# EAGLE library part TUSB2077A (library texas)
The Texas Instruments TUSB2007A in the 48-pin LQFP package. 7-port USB 2.0 hub/controller. Datasheet <http://www.ti.com/lit/ds/symlink/tusb2077a.pdf> Created by Ben Hurwitz, 10-6-16 Robotics@Maryland
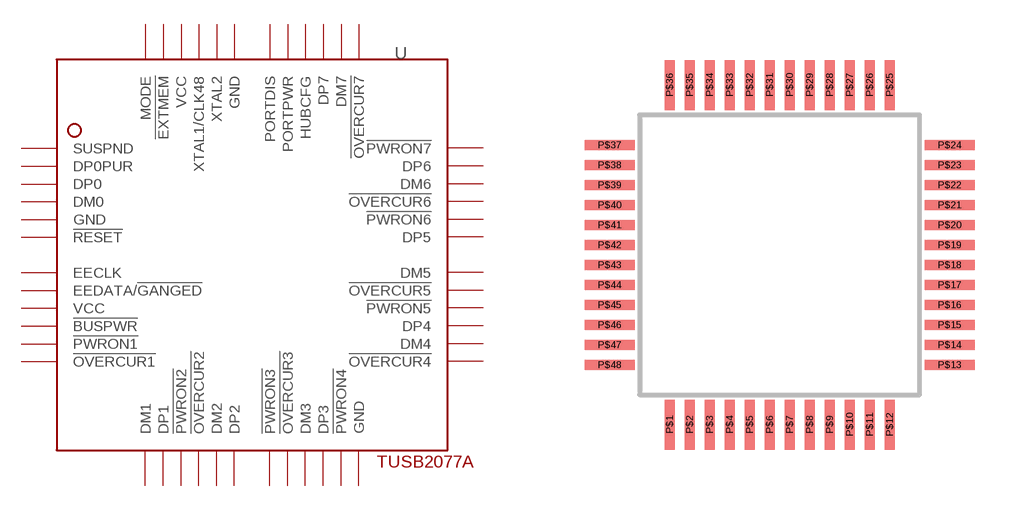
[diagram p126: symbol with the pads of 48-LQFP_0.5MM_PITCH; footprint 48-LQFP_0.5MM_PITCH]

Designator prefix U

## TUSB2077ALQFP  [48-LQFP_0.5MM_PITCH]
P$1  SUSPND
P$2  DP0PUR
P$3  DP0
P$4  DM0
P$5  GND
P$6  !RESET!
P$7  EECLK
P$8  EEDATA/!GANGED!
P$9  VCC
P$10  !BUSPWR!
P$11  !PWRON1!
P$12  !OVERCUR1!
P$13  DM1
P$14  DP1
P$15  !PWRON2!
P$16  !OVERCUR2!
P$17  DM2
P$18  DP2
P$19  !PWRON3!
P$20  !OVERCUR3!
P$21  DM3
P$22  DP3
P$23  !PWRON4!
P$24  GND
P$25  !OVERCUR4!
P$26  DM4
P$27  DP4
P$28  !PWRON5!
P$29  !OVERCUR5!
P$30  DM5
P$31  DP5
P$32  !PWRON6!
P$33  !OVERCUR6!
P$34  DM6
P$35  DP6
P$36  !PWRON7!
P$37  !OVERCUR7!
P$38  DM7
P$39  DP7
P$40  HUBCFG
P$41  PORTPWR
P$42  PORTDIS
P$43  GND
P$44  XTAL2
P$45  XTAL1/CLK48
P$46  VCC
P$47  !EXTMEM!
P$48  MODE

## Footprint 48-LQFP_0.5MM_PITCH (pad centres in mm)
smd 0.25 x 1.25: P$1 -2.75,-4.25; P$2 -2.25,-4.25; P$3 -1.75,-4.25; P$4 -1.25,-4.25; P$5 -0.75,-4.25; P$6 -0.25,-4.25; P$7 0.25,-4.25; P$8 0.75,-4.25; P$9 1.25,-4.25; P$10 1.75,-4.25; P$11 2.25,-4.25; P$12 2.75,-4.25; P$25 2.75,4.25; P$26 2.25,4.25; P$27 1.75,4.25; P$28 1.25,4.25; P$29 0.75,4.25; P$30 0.25,4.25; P$31 -0.25,4.25; P$32 -0.75,4.25; P$33 -1.25,4.25; P$34 -1.75,4.25; P$35 -2.25,4.25; P$36 -2.75,4.25
smd 1.25 x 0.25: P$13 4.25,-2.75; P$14 4.25,-2.25; P$15 4.25,-1.75; P$16 4.25,-1.25; P$17 4.25,-0.75; P$18 4.25,-0.25; P$19 4.25,0.25; P$20 4.25,0.75; P$21 4.25,1.25; P$22 4.25,1.75; P$23 4.25,2.25; P$24 4.25,2.75; P$37 -4.25,2.75; P$38 -4.25,2.25; P$39 -4.25,1.75; P$40 -4.25,1.25; P$41 -4.25,0.75; P$42 -4.25,0.25; P$43 -4.25,-0.25; P$44 -4.25,-0.75; P$45 -4.25,-1.25; P$46 -4.25,-1.75; P$47 -4.25,-2.25; P$48 -4.25,-2.75